# EAGLE library part LM2596S-5.0_NOPB (library LM2596S-5.0_NOPB)
Switching Voltage Regulators 150 KHZ 3A STEP-DOWN VLTG REG Source: Datasheet <https://www.ti.com/lit/gpn/LM2596>
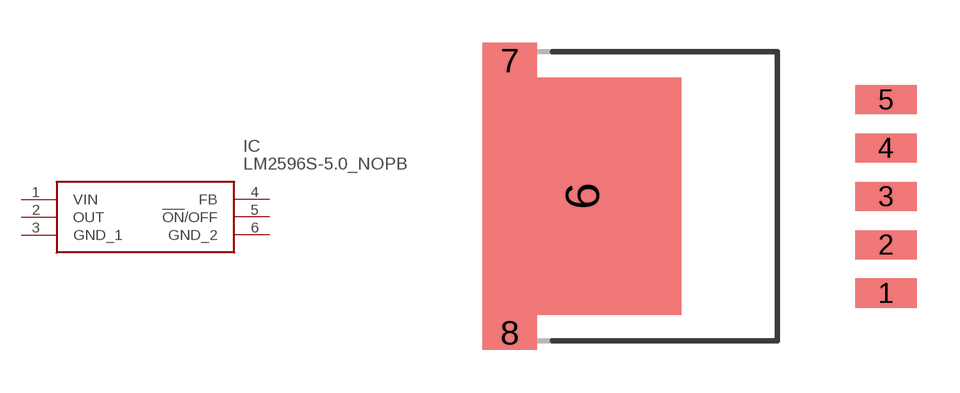
[diagram p0: symbol with the pads of KTT0005B; footprint KTT0005B]

Designator prefix IC

## LM2596S-5.0_NOPB (Description: Switching Voltage Regulators 150 KHZ 3A STEP-DOWN VLTG REG; Height: mm; Manufacturer_Name: Texas Instruments; Manufacturer_Part_Number: LM2596S-5.0/NOPB; Mouser_Part_Number: 926-LM2596S-5.0/NOPB; Mouser_Price-Stock: https://www.mouser.co.uk/ProductDetail/Texas-Instruments/LM2596S-5.0-NOPB?qs=X1J7HmVL2ZHVjCOmW%252BYINA%3D%3D)  [KTT0005B]
1  VIN
2  OUT
3  GND_1
4  FB
5  !ON!/OFF
6  GND_2

## Footprint KTT0005B (pad centres in mm)
KTT0005B
smd 2.16 x 1.02: 1 12.461,-3.4; 2 12.461,-1.7; 3 12.461,0; 4 12.461,1.7; 5 12.461,3.4
smd 6.99 x 8.33: 6 1.786,0
smd 1.91 x 1.235: 7 -0.754,4.782; 8 -0.754,-4.782